# Altium footprint library SHDR10W64P254_2X5_2036X885X925P.PcbLib: 1 footprints
Each footprint in its own frame and in the unit in brackets; x right, y up, seen from the top. Pads: shape width x height; smd on the part's side, far side on the other; paste and mask are expansions set on the pad; w line width, h text height; cw(c..) or ccw(c..) is an arc to the next point about the centre after c.
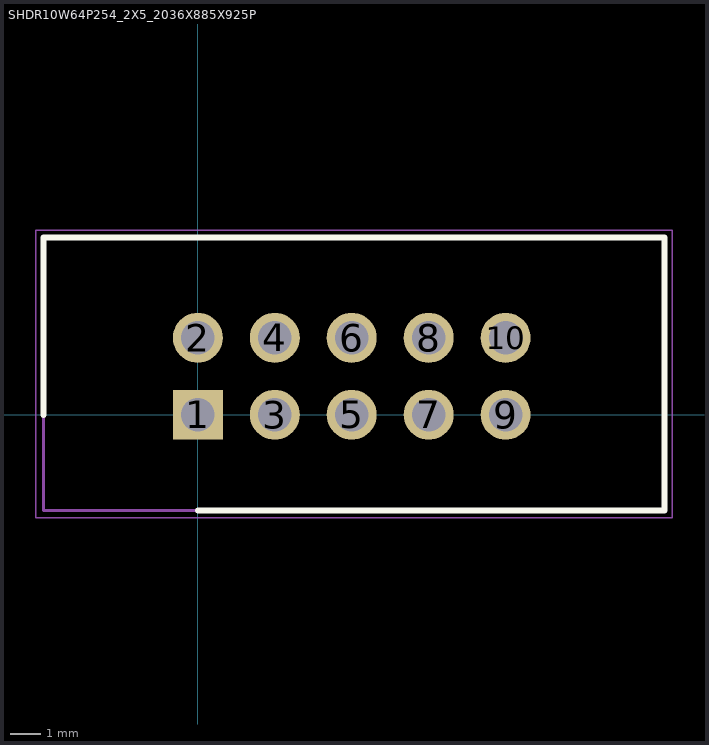
[diagram p0: the footprint, top view; thin cyan lines are the x and y axes]

## SHDR10W64P254_2X5_2036X885X925P [mm]
pads (10):
  rect 1.65x1.65 / inner round 1.65 / far side rect 1.65x1.65 hole 1.1: 1(0,0)
  round 1.65 hole 1.1: 2(0,2.54) 3(2.54,0) 4(2.54,2.54) 5(5.08,0) 6(5.08,2.54) 7(7.62,0) 8(7.62,2.54) 9(10.16,0) 10(10.16,2.54)
Top Overlay:
  lines w0.2: -5.1,0 -5.1,5.845 15.41,5.845 15.41,-3.155 0,-3.155
Mechanical 15:
  lines w0.1: -5.1,-3.155 -5.1,5.845 15.41,5.845 15.41,-3.155 -5.1,-3.155
Mechanical 20:
  lines w0.05: -5.35,-3.405 -5.35,6.095 15.66,6.095 15.66,-3.405 -5.35,-3.405